# Altium integrated library TI Interface Display.IntLib: 133 symbols (part 13 of 16)
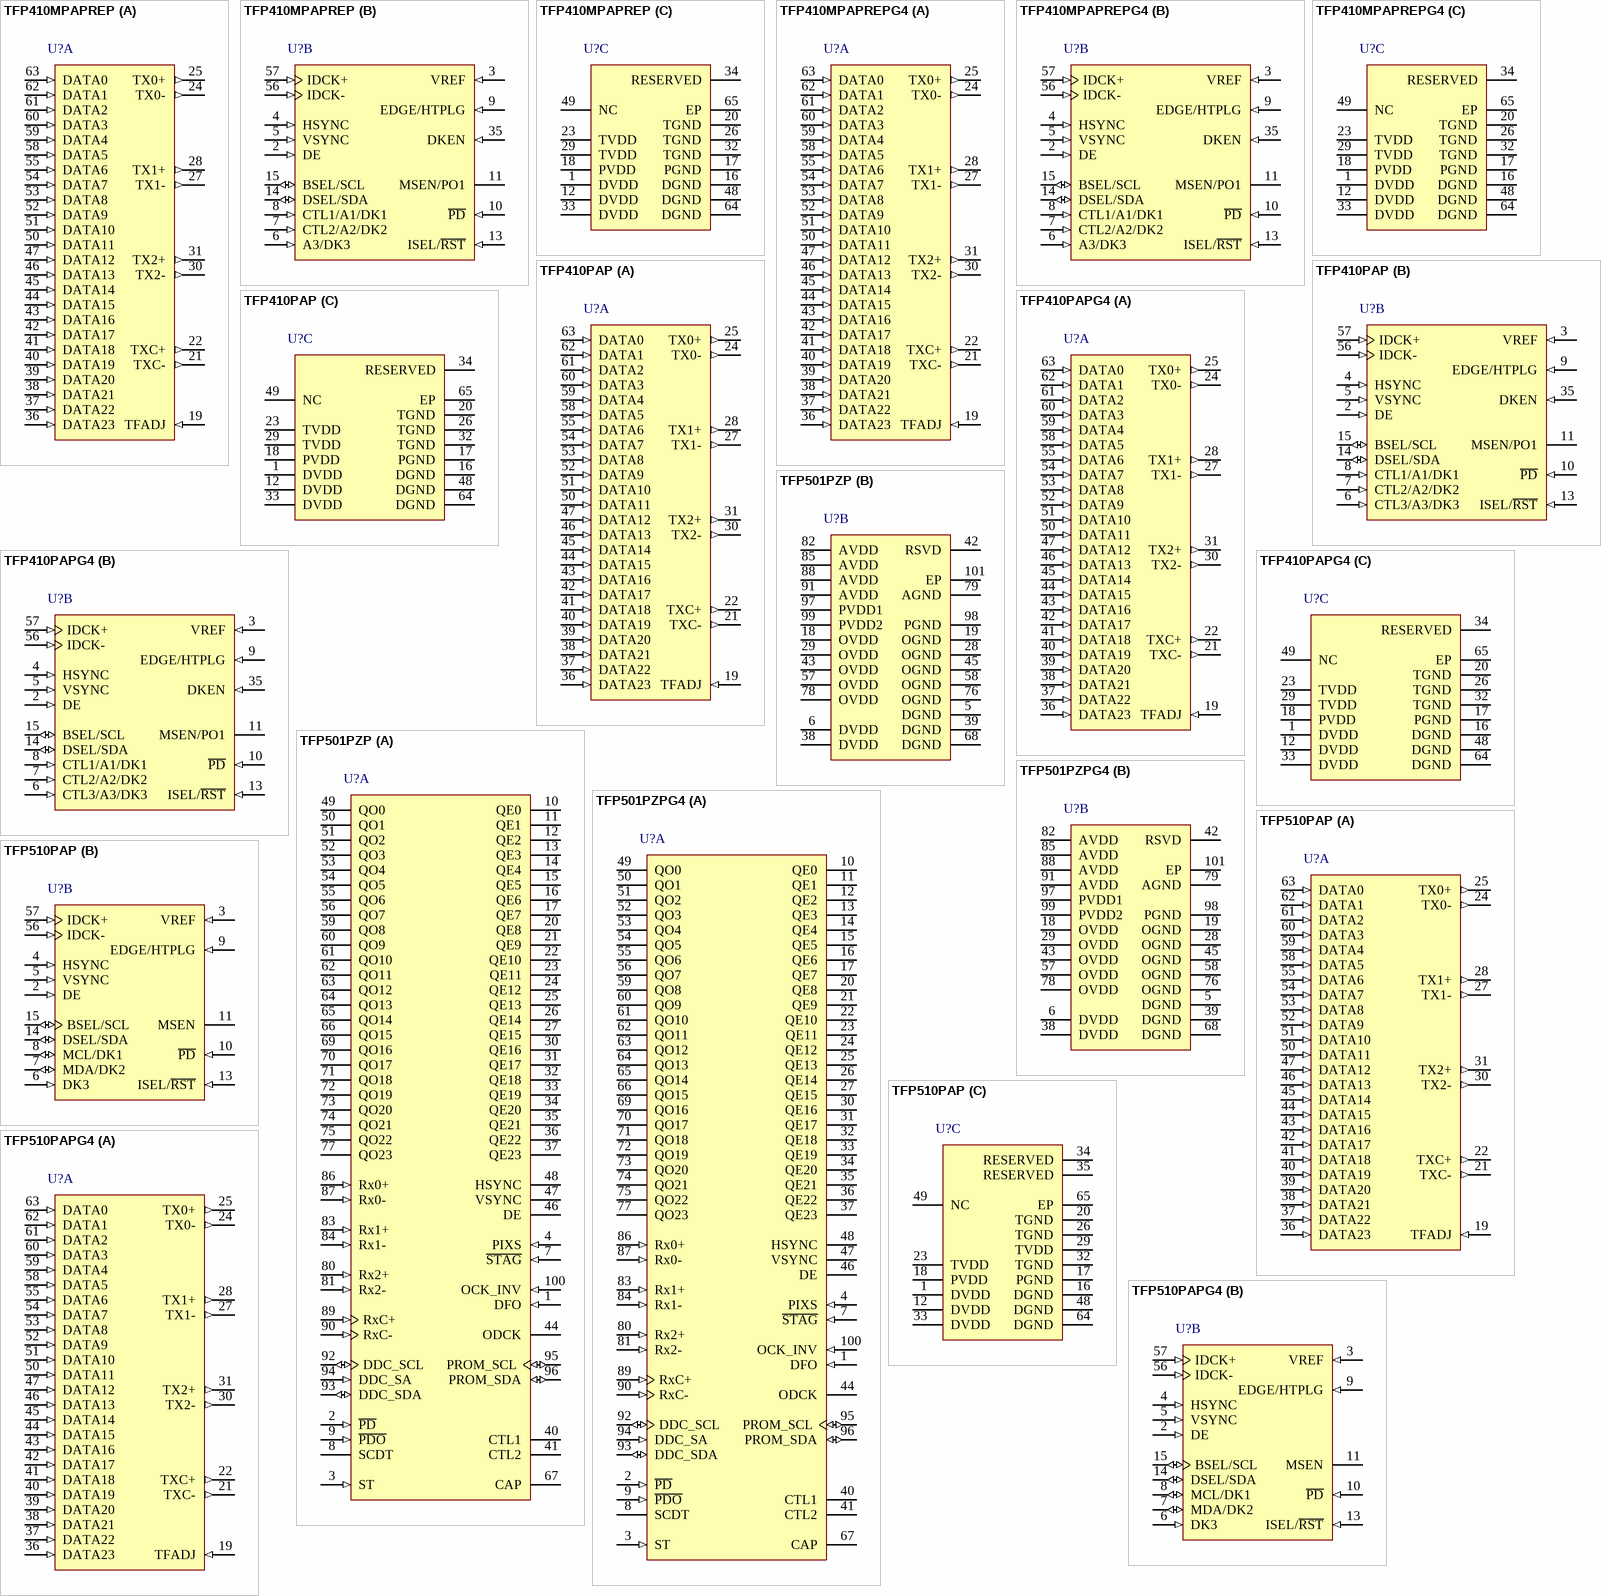
[diagram p26: symbols TFP410MPAPREP to TFP510PAPG4]

## TFP501PZPG4
designator U?
PanelBus HDCP Digital Receiver with 3 Data Channels, 3.3 V, 0 to +70 degC, 100-pin HTQFP (PZP), Green (RoHS & no Sb/Br); Manufacturer: Texas Instruments; PartNumber: TFP501PZPG4; Number of Parallel Outputs: 48; PLL Frequency(MHz): 25 to 165; Rating: Catalog; Receiver: TRUE; Serial Data Receiver Channels: 3; SubFamily: PanelBus (DVI); Supply Voltage(s)(V): 3.3; DatasheetVersion: SLDS127C; PackageVersion: revC, Sep-2011; PackageReference: PZP100-4700X4700TP; PackageDescription: 100-Pin Plastic Quad Flat Pack PowerPAD; Eco-Plan: Green (RoHS & no Sb/Br); Mounting Technology: Surface Mount; Code_JEDEC: MS-026; ComponentLink1Description: Datasheet; ComponentLink1URL: http://www.ti.com/general/docs/lit/getliterature.tsp?genericPartNumber=TFP501&fileType=pdf; ComponentLink2Description: URL Link1; ComponentLink2URL: SamplesURL:http://www.ti.com/product/tfp501#samples
footprint PZP100-4700X4700TP_N (Thin QFP, 100-Leads, Body 14x14mm, Pitch 0.5mm, Thermal Pad 5.2x5.2mm, IPC Medium Density)
footprint PZP100-4700X4700TP_L (Thin QFP, 100-Leads, Body 14x14mm, Pitch 0.5mm, Thermal Pad 5.2x5.2mm, IPC High Density)
footprint PZP100-4700X4700TP_M (Thin QFP, 100-Leads, Body 14x14mm, Pitch 0.5mm, Thermal Pad 5.2x5.2mm, IPC Low Density)
part A pins: 1 DFO (in) "Output clock data format - Controls the output clock (ODCK) format for either TFT or DSTN panel support. For TFT support ODCK clock runs continuously. For DSTN support ODCK only clocks when DE is high; otherwise, ODCK is  (See Datasheet)", 2 ~{PD} (in) "Power down - An active low signal that controls the TFP501 power-down state. During power down all output buffers are switched to a high-impedance state and brought low through a weak pulldown. All analog circuits are (See Datasheet)", 3 ST (in) "Output drive strength select - Selects output drive strength for high or low current drive. (See dc specifications for IOH and IOL vs ST state).High : High drive strength Low : Low drive strength", 4 PIXS (in) "Pixel select - Selects between one or two pixel per clock output modes. During 2-pixel/clock mode, both even pixels,QE[23:0], and odd pixels, QO[23:0], are output in tandem on a given clock cycle. During 1 pixel/clock, even (See Datasheet)", 7 ~{STAG} (in) "Staggered pixel select - An active low signal used in the 2-pixel/clock pixel mode (PIXS = high). Time staggers the even and odd pixel outputs to reduce ground bounce. Normal operation outputs the odd and even pixels  (See Datasheet)", 8 SCDT (hiz) "Sync detect - Output to signal when the link is active or inactive. The link is considered to be active when DE is actively switching. The TFP501 monitors the state DE to determine link activity. SCDT can be tied externally (See Datasheet)", 9 ~{PDO} (in) "Output drive power down - An active low signal that controls the power-down state of the output drivers. During output drive power down, the output drivers (except SCDT and CTL1) are driven to a high-impedance state. A weak (See Datasheet)", 10 QE0 (hiz) "Even blue pixel output - Output for even and odd green pixels when in 1-pixel/clock mode. Output for even only blue pixel when in 2-pixel/clock mode. Output data is synchronized to the output data clock, ODCK. LSB: QE0/pin (See Datasheet)", 11 QE1 (hiz) "Even blue pixel output - Output for even and odd green pixels when in 1-pixel/clock mode. Output for even only blue pixel when in 2-pixel/clock mode. Output data is synchronized to the output data clock, ODCK. LSB: QE0/pin (See Datasheet)", 12 QE2 (hiz) "Even blue pixel output - Output for even and odd green pixels when in 1-pixel/clock mode. Output for even only blue pixel when in 2-pixel/clock mode. Output data is synchronized to the output data clock, ODCK. LSB: QE0/pin (See Datasheet)", 13 QE3 (hiz) "Even blue pixel output - Output for even and odd green pixels when in 1-pixel/clock mode. Output for even only blue pixel when in 2-pixel/clock mode. Output data is synchronized to the output data clock, ODCK. LSB: QE0/pin (See Datasheet)", 14 QE4 (hiz) "Even blue pixel output - Output for even and odd green pixels when in 1-pixel/clock mode. Output for even only blue pixel when in 2-pixel/clock mode. Output data is synchronized to the output data clock, ODCK. LSB: QE0/pin (See Datasheet)", 15 QE5 (hiz) "Even blue pixel output - Output for even and odd green pixels when in 1-pixel/clock mode. Output for even only blue pixel when in 2-pixel/clock mode. Output data is synchronized to the output data clock, ODCK. LSB: QE0/pin (See Datasheet)", 16 QE6 (hiz) "Even blue pixel output - Output for even and odd green pixels when in 1-pixel/clock mode. Output for even only blue pixel when in 2-pixel/clock mode. Output data is synchronized to the output data clock, ODCK. LSB: QE0/pin (See Datasheet)", 17 QE7 (hiz) "Even blue pixel output - Output for even and odd green pixels when in 1-pixel/clock mode. Output for even only blue pixel when in 2-pixel/clock mode. Output data is synchronized to the output data clock, ODCK. LSB: QE0/pin (See Datasheet)", 20 QE8 (hiz) "Even green pixel output", 21 QE9 (hiz) "Even green pixel output", 22 QE10 (hiz) "Even green pixel output", 23 QE11 (hiz) "Even green pixel output", 24 QE12 (hiz) "Even green pixel output", 25 QE13 (hiz) "Even green pixel output", 26 QE14 (hiz) "Even green pixel output", 27 QE15 (hiz) "Even green pixel output", 30 QE16 (hiz) "Even red pixel output - Output for even and odd red pixels when in 1-pixel/clock mode. Output for even only red pixel when in 2-pixel/clock mode. Output data is synchronized to the output data clock, ODCK.LSB: QE16/pin 30 (See Datasheet)", 31 QE17 (hiz) "Even red pixel output - Output for even and odd red pixels when in 1-pixel/clock mode. Output for even only red pixel when in 2-pixel/clock mode. Output data is synchronized to the output data clock, ODCK.LSB: QE16/pin 30 (See Datasheet)", 32 QE18 (hiz) "Even red pixel output - Output for even and odd red pixels when in 1-pixel/clock mode. Output for even only red pixel when in 2-pixel/clock mode. Output data is synchronized to the output data clock, ODCK.LSB: QE16/pin 30 (See Datasheet)", 33 QE19 (hiz) "Even red pixel output - Output for even and odd red pixels when in 1-pixel/clock mode. Output for even only red pixel when in 2-pixel/clock mode. Output data is synchronized to the output data clock, ODCK.LSB: QE16/pin 30 (See Datasheet)", 34 QE20 (hiz) "Even red pixel output - Output for even and odd red pixels when in 1-pixel/clock mode. Output for even only red pixel when in 2-pixel/clock mode. Output data is synchronized to the output data clock, ODCK.LSB: QE16/pin 30 (See Datasheet)", 35 QE21 (hiz) "Even red pixel output - Output for even and odd red pixels when in 1-pixel/clock mode. Output for even only red pixel when in 2-pixel/clock mode. Output data is synchronized to the output data clock, ODCK.LSB: QE16/pin 30 (See Datasheet)", 36 QE22 (hiz) "Even red pixel output - Output for even and odd red pixels when in 1-pixel/clock mode. Output for even only red pixel when in 2-pixel/clock mode. Output data is synchronized to the output data clock, ODCK.LSB: QE16/pin 30 (See Datasheet)", 37 QE23 (hiz) "Even red pixel output - Output for even and odd red pixels when in 1-pixel/clock mode. Output for even only red pixel when in 2-pixel/clock mode. Output data is synchronized to the output data clock, ODCK.LSB: QE16/pin 30 (See Datasheet)", 40 CTL1 (hiz) "General-purpose control signals - Used for user defined control. In normal mode CTL1 is not powered down via P\D\O\.", 41 CTL2 (hiz) "General-purpose control signals - Used for user defined control. In normal mode CTL1 is not powered down via P\D\O\.", 44 ODCK (hiz) "Output data clock - Pixel clock. All pixel outputs QE[23:0] and QO[23:0] (if in 2-pixel/clock mode) along with DE,HSYNC, VSYNC and CTL[2:1] are synchronized to this clock.", 46 DE (hiz) "Output data enable - Used to indicate time of active video display versus nonactive display or blanking interval.During blanking, only HSYNC, VSYNC, and CTL1-2 are transmitted. During times of active display, or nonblanking, (See Datasheet)", 47 VSYNC (hiz) "Vertical sync output", 48 HSYNC (hiz) "Horizontal sync output", 49 QO0 (hiz) "Odd blue pixel output - Output for odd only blue pixel when in 2-pixel/clock mode. Not used, and held low, when in 1-pixel/clock mode. Output data is synchronized to the output data clock, ODCK. LSB: QO0/pin 49 MSB: QO7/pin (See Datasheet)", 50 QO1 (hiz) "Odd blue pixel output - Output for odd only blue pixel when in 2-pixel/clock mode. Not used, and held low, when in 1-pixel/clock mode. Output data is synchronized to the output data clock, ODCK. LSB: QO0/pin 49 MSB: QO7/pin (See Datasheet)", 51 QO2 (hiz) "Odd blue pixel output - Output for odd only blue pixel when in 2-pixel/clock mode. Not used, and held low, when in 1-pixel/clock mode. Output data is synchronized to the output data clock, ODCK. LSB: QO0/pin 49 MSB: QO7/pin (See Datasheet)", 52 QO3 (hiz) "Odd blue pixel output - Output for odd only blue pixel when in 2-pixel/clock mode. Not used, and held low, when in 1-pixel/clock mode. Output data is synchronized to the output data clock, ODCK. LSB: QO0/pin 49 MSB: QO7/pin (See Datasheet)", 53 QO4 (hiz) "Odd blue pixel output - Output for odd only blue pixel when in 2-pixel/clock mode. Not used, and held low, when in 1-pixel/clock mode. Output data is synchronized to the output data clock, ODCK. LSB: QO0/pin 49 MSB: QO7/pin (See Datasheet)", 54 QO5 (hiz) "Odd blue pixel output - Output for odd only blue pixel when in 2-pixel/clock mode. Not used, and held low, when in 1-pixel/clock mode. Output data is synchronized to the output data clock, ODCK. LSB: QO0/pin 49 MSB: QO7/pin (See Datasheet)", 55 QO6 (hiz) "Odd blue pixel output - Output for odd only blue pixel when in 2-pixel/clock mode. Not used, and held low, when in 1-pixel/clock mode. Output data is synchronized to the output data clock, ODCK. LSB: QO0/pin 49 MSB: QO7/pin (See Datasheet)", 56 QO7 (hiz) "Odd blue pixel output - Output for odd only blue pixel when in 2-pixel/clock mode. Not used, and held low, when in 1-pixel/clock mode. Output data is synchronized to the output data clock, ODCK. LSB: QO0/pin 49 MSB: QO7/pin (See Datasheet)", 59 QO8 (hiz) "Odd green pixel output - Output for odd only green pixel when in 2-pixel/clock mode. Not used, and held low, when in 1-pixel/clock mode. Output data is synchronized to the output data clock, ODCK. LSB: QO8/pin 59 MSB: (See Datasheet)", 60 QO9 (hiz) "Odd green pixel output - Output for odd only green pixel when in 2-pixel/clock mode. Not used, and held low, when in 1-pixel/clock mode. Output data is synchronized to the output data clock, ODCK. LSB: QO8/pin 59 MSB: (See Datasheet)", 61 QO10 (hiz) "Odd green pixel output - Output for odd only green pixel when in 2-pixel/clock mode. Not used, and held low, when in 1-pixel/clock mode. Output data is synchronized to the output data clock, ODCK. LSB: QO8/pin 59 MSB: (See Datasheet)", 62 QO11 (hiz) "Odd green pixel output - Output for odd only green pixel when in 2-pixel/clock mode. Not used, and held low, when in 1-pixel/clock mode. Output data is synchronized to the output data clock, ODCK. LSB: QO8/pin 59 MSB: (See Datasheet)", 63 QO12 (hiz) "Odd green pixel output - Output for odd only green pixel when in 2-pixel/clock mode. Not used, and held low, when in 1-pixel/clock mode. Output data is synchronized to the output data clock, ODCK. LSB: QO8/pin 59 MSB: (See Datasheet)", 64 QO13 (hiz) "Odd green pixel output - Output for odd only green pixel when in 2-pixel/clock mode. Not used, and held low, when in 1-pixel/clock mode. Output data is synchronized to the output data clock, ODCK. LSB: QO8/pin 59 MSB: (See Datasheet)", 65 QO14 (hiz) "Odd green pixel output - Output for odd only green pixel when in 2-pixel/clock mode. Not used, and held low, when in 1-pixel/clock mode. Output data is synchronized to the output data clock, ODCK. LSB: QO8/pin 59 MSB: (See Datasheet)", 66 QO15 (hiz) "Odd green pixel output - Output for odd only green pixel when in 2-pixel/clock mode. Not used, and held low, when in 1-pixel/clock mode. Output data is synchronized to the output data clock, ODCK. LSB: QO8/pin 59 MSB: (See Datasheet)", 67 CAP "Bypass capacito r- 4.7", 69 QO16 (hiz) "Odd red pixel output - Output for odd only red pixel when in 2-pixel/clock mode. Not used, and held low, when in 1-pixel/clock mode. Output data is synchronized to the output data clock, ODCK.LSB: QO16/pin 69 MSB: QO23/pin 77", 70 QO17 (hiz) "Odd red pixel output - Output for odd only red pixel when in 2-pixel/clock mode. Not used, and held low, when in 1-pixel/clock mode. Output data is synchronized to the output data clock, ODCK.LSB: QO16/pin 69 MSB: QO23/pin 77", 71 QO18 (hiz) "Odd red pixel output - Output for odd only red pixel when in 2-pixel/clock mode. Not used, and held low, when in 1-pixel/clock mode. Output data is synchronized to the output data clock, ODCK.LSB: QO16/pin 69 MSB: QO23/pin 77", 72 QO19 (hiz) "Odd red pixel output - Output for odd only red pixel when in 2-pixel/clock mode. Not used, and held low, when in 1-pixel/clock mode. Output data is synchronized to the output data clock, ODCK.LSB: QO16/pin 69 MSB: QO23/pin 77", 73 QO20 (hiz) "Odd red pixel output - Output for odd only red pixel when in 2-pixel/clock mode. Not used, and held low, when in 1-pixel/clock mode. Output data is synchronized to the output data clock, ODCK.LSB: QO16/pin 69 MSB: QO23/pin 77", 74 QO21 (hiz) "Odd red pixel output - Output for odd only red pixel when in 2-pixel/clock mode. Not used, and held low, when in 1-pixel/clock mode. Output data is synchronized to the output data clock, ODCK.LSB: QO16/pin 69 MSB: QO23/pin 77", 75 QO22 (hiz) "Odd red pixel output - Output for odd only red pixel when in 2-pixel/clock mode. Not used, and held low, when in 1-pixel/clock mode. Output data is synchronized to the output data clock, ODCK.LSB: QO16/pin 69 MSB: QO23/pin 77", 77 QO23 (hiz) "Odd red pixel output - Output for odd only red pixel when in 2-pixel/clock mode. Not used, and held low, when in 1-pixel/clock mode. Output data is synchronized to the output data clock, ODCK.LSB: QO16/pin 69 MSB: QO23/pin 77", 80 Rx2+ (in) "Channel-2 positive receiver input - Positive side of channel-2 TMDS low voltage signal differential input pair.Channel-2 receives red pixel data in active display and CTL2 control signals in blanking.", 81 Rx2- (in) "Channel-2 negative receiver input - Negative side of channel-2 TMDS low voltage signal differential input pair.", 83 Rx1+ (in) "Channel-1 positive receiver input - Positive side of channel-1 TMDS low voltage signal differential input pair.Channel-1 receives green pixel data in active display and CTL1 control signals in blanking.", 84 Rx1- (in) "Channel-1 negative receiver input - Negative side of channel-1 TMDS low voltage signal differential input pair.", 86 Rx0+ (in) "Channel-0 positive receiver input - Positive side of channel-0. TMDS low voltage signal differential input pail.Channel-0 receives blue pixel data in active display and HSYNC, VSYNC control signals in blanking.", 87 Rx0- (in) "Channel-0 negative receiver input - Negative side of channel-0. TMDS low voltage signal differential input pair.", 89 RxC+ (in) "Clock positive receiver input - Positive side of reference clock. TMDS low voltage signal differential input pair.", 90 RxC- (in) "Clock negative receiver input - Negative side of reference clock. TMDS low voltage signal differential input pair.", 92 DDC_SCL (io) "Display data channel_serial clock - I2C Clock for the DDC. External pullup resistors = 10 k ohm and 3.3 V tolerant.", 93 DDC_SDA (io) "Display data channel_serial data - I2C Data for the DDC. External pullup resistors = 10 k ohm and 3.3 V tolerant.", 94 DDC_SA (in) "Display data channel_serial address - I2C Slave address bit A0 for display data channel (DDC). Refer to I2C Interface section for more details.", 95 PROM_SCL (io) "EEPROM_serial clock - I2C clock for EEPROM interface data. External pullup resistors = 10 k ohm and 3.3 V tolerant.", 96 PROM_SDA (io) "EEPROM_serial data - I2C data for EEPROM interface data. External pullup resistors = 10 kohm and 3.3 V tolerant.", 100 OCK_INV (in) "ODCK Polarity - Selects ODCK edge on which pixel data (QE[23:0] and QO[23:0]) and control signals (HSYNC,VSYNC, DE, CTL1-2 ) are latched.High : Latches output data on rising ODCK edge Low : Latches output data on falling (See Datasheet)"
part B pins: 5 DGND (power) "Digital ground - Ground reference and current return for digital core", 6 DVDD (power) "Digital VDD - Power supply for digital core. Nominally 3.3 V", 18 OVDD (power) "Output driver VDD - Power supply for output drivers. Nominally 3.3 V", 19 OGND (power) "Output driver ground - Ground reference and current return for digital output drivers", 28 OGND (power) "Output driver ground - Ground reference and current return for digital output drivers", 29 OVDD (power) "Output driver VDD - Power supply for output drivers. Nominally 3.3 V", 38 DVDD (power) "Digital VDD - Power supply for digital core. Nominally 3.3 V", 39 DGND (power) "Digital ground - Ground reference and current return for digital core", 42 RSVD "Reserved - Must be tied high for normal operation.", 43 OVDD (power) "Output driver VDD - Power supply for output drivers. Nominally 3.3 V", 45 OGND (power) "Output driver ground - Ground reference and current return for digital output drivers", 57 OVDD (power) "Output driver VDD - Power supply for output drivers. Nominally 3.3 V", 58 OGND (power) "Output driver ground - Ground reference and current return for digital output drivers", 68 DGND (power) "Digital ground - Ground reference and current return for digital core", 76 OGND (power) "Output driver ground - Ground reference and current return for digital output drivers", 78 OVDD (power) "Output driver VDD - Power supply for output drivers. Nominally 3.3 V", 79 AGND (power) "Analog Ground - Ground reference and current return for analog circuitry.", 82 AVDD (power) "Analog VDD - Power supply for analog circuitry. Nominally 3.3 V", 85 AVDD (power) "Analog VDD - Power supply for analog circuitry. Nominally 3.3 V", 88 AVDD (power) "Analog VDD - Power supply for analog circuitry. Nominally 3.3 V", 91 AVDD (power) "Analog VDD - Power supply for analog circuitry. Nominally 3.3 V", 97 PVDD1 (power) "PLL VDD - Power supply for internal PLL", 98 PGND (power) "PLL ground - Ground reference and current return for internal PLL", 99 PVDD2 (power) "PLL VDD - Power supply for internal PLL", 101 EP (power) "Exposed  Pad"

## TFP510PAP
designator U?
TI PanelBus DVI Transmitter 165 MHz Plus HDCP with 3 Data Channels, 3.3 V, 0 to +70 degC, 64-pin HTQFP (PAP), Green (RoHS & no Sb/Br); Manufacturer: Texas Instruments; PartNumber: TFP510PAP; Number of Parallel Inputs: 24; PLL Frequency(MHz): 25 to 165; Rating: Catalog; Serial Data Transmitter Channels: 3; SubFamily: PanelBus (DVI); Supply Voltage(s)(V): 3.3; Transmitter: TRUE; DatasheetVersion: SLDS146C; PackageVersion: revC, Aug-2003; PackageReference: PAP64-4650X4650TP; PackageDescription: 64-Pin Plastic Quad Flat Pack, 10 x 10 mm Body, 0.5 mm Pitch, Exposed Pad; Eco-Plan: Green (RoHS & no Sb/Br); Mounting Technology: Surface Mount; Code_JEDEC: MS-026; ComponentLink1Description: Datasheet; ComponentLink1URL: http://www.ti.com/general/docs/lit/getliterature.tsp?genericPartNumber=TFP510&fileType=pdf; ComponentLink2Description: URL Link1; ComponentLink2URL: SamplesURL:http://www.ti.com/product/tfp510#samples
footprint PAP64-4650X4650TP_N (Thin QFP, 64-Leads, Body 10x10mm, Pitch 0.5mm, Thermal Pad 5x5mm, IPC Medium Density)
footprint PAP64-4650X4650TP_L (Thin QFP, 64-Leads, Body 10x10mm, Pitch 0.5mm, Thermal Pad 5x5mm, IPC High Density)
footprint PAP64-4650X4650TP_M (Thin QFP, 64-Leads, Body 10x10mm, Pitch 0.5mm, Thermal Pad 5x5mm, IPC Low Density)
part A pins: 19 TFADJ (in) "Full-scale adjust. This pin controls the amplitude of the DVI output voltage swing, determined by the value of the pullup resistor RTFADJ connected to TVDD.", 21 TXC- (out) "DVI differential output clock.", 22 TXC+ (out) "DVI differential output clock.", 24 TX0- (out) "Channel-0 DVI differential output pair. TX0+/- transmits the 8-bit blue pixel data during active video and HSYNC and VSYNC during the blanking interval.", 25 TX0+ (out) "Channel-0 DVI differential output pair. TX0+/- transmits the 8-bit blue pixel data during active video and HSYNC and VSYNC during the blanking interval.", 27 TX1- (out) "Channel-1 DVI differential output pair. TX1+/- transmits the 8-bit green pixel data during active video and CTL[1] during the blanking interval.", 28 TX1+ (out) "Channel-1 DVI differential output pair. TX1+/- transmits the 8-bit green pixel data during active video and CTL[1] during the blanking interval.", 30 TX2- (out) "Channel-2 DVI differential output pair. TX2+/- transmits the 8-bit red pixel data during active video and CTL[3:2] during the blanking interval.", 31 TX2+ (out) "Channel-2 DVI differential output pair. TX2+/- transmits the 8-bit red pixel data during active video and CTL[3:2] during the blanking interval.", 36 DATA23 (in) "The upper 12 bits of the 24-bit pixel bus. In 24-bit, single-edge input mode (BSEL = high), this bus inputs the top half of the 24-bit pixel bus. In 12-bit, dual-edge input mode (BSEL = low), these bits are not used to input (See Datasheet)", 37 DATA22 (in) "The upper 12 bits of the 24-bit pixel bus. In 24-bit, single-edge input mode (BSEL = high), this bus inputs the top half of the 24-bit pixel bus. In 12-bit, dual-edge input mode (BSEL = low), these bits are not used to input (See Datasheet)", 38 DATA21 (in) "The upper 12 bits of the 24-bit pixel bus. In 24-bit, single-edge input mode (BSEL = high), this bus inputs the top half of the 24-bit pixel bus. In 12-bit, dual-edge input mode (BSEL = low), these bits are not used to input (See Datasheet)", 39 DATA20 (in) "The upper 12 bits of the 24-bit pixel bus. In 24-bit, single-edge input mode (BSEL = high), this bus inputs the top half of the 24-bit pixel bus. In 12-bit, dual-edge input mode (BSEL = low), these bits are not used to input (See Datasheet)", 40 DATA19 (in) "The upper 12 bits of the 24-bit pixel bus. In 24-bit, single-edge input mode (BSEL = high), this bus inputs the top half of the 24-bit pixel bus. In 12-bit, dual-edge input mode (BSEL = low), these bits are not used to input (See Datasheet)", 41 DATA18 (in) "The upper 12 bits of the 24-bit pixel bus. In 24-bit, single-edge input mode (BSEL = high), this bus inputs the top half of the 24-bit pixel bus. In 12-bit, dual-edge input mode (BSEL = low), these bits are not used to input (See Datasheet)", 42 DATA17 (in) "The upper 12 bits of the 24-bit pixel bus. In 24-bit, single-edge input mode (BSEL = high), this bus inputs the top half of the 24-bit pixel bus. In 12-bit, dual-edge input mode (BSEL = low), these bits are not used to input (See Datasheet)", 43 DATA16 (in) "The upper 12 bits of the 24-bit pixel bus. In 24-bit, single-edge input mode (BSEL = high), this bus inputs the top half of the 24-bit pixel bus. In 12-bit, dual-edge input mode (BSEL = low), these bits are not used to input (See Datasheet)", 44 DATA15 (in) "The upper 12 bits of the 24-bit pixel bus. In 24-bit, single-edge input mode (BSEL = high), this bus inputs the top half of the 24-bit pixel bus. In 12-bit, dual-edge input mode (BSEL = low), these bits are not used to input (See Datasheet)", 45 DATA14 (in) "The upper 12 bits of the 24-bit pixel bus. In 24-bit, single-edge input mode (BSEL = high), this bus inputs the top half of the 24-bit pixel bus. In 12-bit, dual-edge input mode (BSEL = low), these bits are not used to input (See Datasheet)", 46 DATA13 (in) "The upper 12 bits of the 24-bit pixel bus. In 24-bit, single-edge input mode (BSEL = high), this bus inputs the top half of the 24-bit pixel bus. In 12-bit, dual-edge input mode (BSEL = low), these bits are not used to input (See Datasheet)", 47 DATA12 (in) "The upper 12 bits of the 24-bit pixel bus. In 24-bit, single-edge input mode (BSEL = high), this bus inputs the top half of the 24-bit pixel bus. In 12-bit, dual-edge input mode (BSEL = low), these bits are not used to input (See Datasheet)", 50 DATA11 (in) "The lower 12 bits of the 24-bit pixel bus/12-bit pixel bus input. In 24-bit, single-edge input mode (BSEL = high), this bus inputs the bottom half of the 24-bit pixel bus. In 12-bit, dual-edge input mode (BSEL = low), this (See Datasheet)", 51 DATA10 (in) "The lower 12 bits of the 24-bit pixel bus/12-bit pixel bus input. In 24-bit, single-edge input mode (BSEL = high), this bus inputs the bottom half of the 24-bit pixel bus. In 12-bit, dual-edge input mode (BSEL = low), this (See Datasheet)", 52 DATA9 (in) "The lower 12 bits of the 24-bit pixel bus/12-bit pixel bus input. In 24-bit, single-edge input mode (BSEL = high), this bus inputs the bottom half of the 24-bit pixel bus. In 12-bit, dual-edge input mode (BSEL = low), this (See Datasheet)", 53 DATA8 (in) "The lower 12 bits of the 24-bit pixel bus/12-bit pixel bus input. In 24-bit, single-edge input mode (BSEL = high), this bus inputs the bottom half of the 24-bit pixel bus. In 12-bit, dual-edge input mode (BSEL = low), this (See Datasheet)", 54 DATA7 (in) "The lower 12 bits of the 24-bit pixel bus/12-bit pixel bus input. In 24-bit, single-edge input mode (BSEL = high), this bus inputs the bottom half of the 24-bit pixel bus. In 12-bit, dual-edge input mode (BSEL = low), this (See Datasheet)", 55 DATA6 (in) "The lower 12 bits of the 24-bit pixel bus/12-bit pixel bus input. In 24-bit, single-edge input mode (BSEL = high), this bus inputs the bottom half of the 24-bit pixel bus. In 12-bit, dual-edge input mode (BSEL = low), this (See Datasheet)", 58 DATA5 (in) "The lower 12 bits of the 24-bit pixel bus/12-bit pixel bus input. In 24-bit, single-edge input mode (BSEL = high), this bus inputs the bottom half of the 24-bit pixel bus. In 12-bit, dual-edge input mode (BSEL = low), this (See Datasheet)", 59 DATA4 (in) "The lower 12 bits of the 24-bit pixel bus/12-bit pixel bus input. In 24-bit, single-edge input mode (BSEL = high), this bus inputs the bottom half of the 24-bit pixel bus. In 12-bit, dual-edge input mode (BSEL = low), this (See Datasheet)", 60 DATA3 (in) "The lower 12 bits of the 24-bit pixel bus/12-bit pixel bus input. In 24-bit, single-edge input mode (BSEL = high), this bus inputs the bottom half of the 24-bit pixel bus. In 12-bit, dual-edge input mode (BSEL = low), this (See Datasheet)", 61 DATA2 (in) "The lower 12 bits of the 24-bit pixel bus/12-bit pixel bus input. In 24-bit, single-edge input mode (BSEL = high), this bus inputs the bottom half of the 24-bit pixel bus. In 12-bit, dual-edge input mode (BSEL = low), this (See Datasheet)", 62 DATA1 (in) "The lower 12 bits of the 24-bit pixel bus/12-bit pixel bus input. In 24-bit, single-edge input mode (BSEL = high), this bus inputs the bottom half of the 24-bit pixel bus. In 12-bit, dual-edge input mode (BSEL = low), this (See Datasheet)", 63 DATA0 (in) "The lower 12 bits of the 24-bit pixel bus/12-bit pixel bus input. In 24-bit, single-edge input mode (BSEL = high), this bus inputs the bottom half of the 24-bit pixel bus. In 12-bit, dual-edge input mode (BSEL = low), this (See Datasheet)"
part B pins: 2 DE (in) "Data enable. As defined in the DVI 1.0 specification, the DE signal allows the transmitter to encode pixel data or control data on any given input clock cycle. During active video (DE = high), the transmitter encodes pixel (See Datasheet)", 3 VREF (in) "Input reference voltage. Selects the swing range of the digital data inputs (DATA[23:0], DE, HSYNC, VSYNC, and IDCK+/-). For high-swing 3.3-V input signal levels, VREF should be tied to VDD. For low-swing input signal (See Datasheet)", 4 HSYNC (in) "Horizontal sync input.", 5 VSYNC (in) "Vertical sync input.", 6 DK3 (in) "The operation of these three multifunction inputs depends on the setting of the ISEL (pin 13) input. All three inputs support 3.3-V CMOS signal levels and contain weak pulldown resistors so that if left unconnected they (See Datasheet)", 7 MDA/DK2 (io) "The operation of these three multifunction inputs depends on the setting of the ISEL (pin 13) input. All three inputs support 3.3-V CMOS signal levels and contain weak pulldown resistors so that if left unconnected they (See Datasheet)", 8 MCL/DK1 (io) "The operation of these three multifunction inputs depends on the setting of the ISEL (pin 13) input. All three inputs support 3.3-V CMOS signal levels and contain weak pulldown resistors so that if left unconnected they (See Datasheet)", 9 EDGE/HTPLG (in) "Edge select/hot plug input. The operation of this pin depends on whether the I2C interface is enabled or disabled. This input is 3.3-V tolerant only. When I2C is disabled (ISEL = low), a high level selects the primary latch (See Datasheet)", 10 ~{PD} (in) "Power down (active low). In the power-down state only the digital I/O buffers and I2C interface remain active. When I2C is disabled (ISEL = low), a high level selects the normal operating mode. A low level selects the (See Datasheet)", 11 MSEN (oc) "Monitor sense/programmable output 1. The operation of this pin depends on whether the I2C interface is enabled or disabled. This pin has an open-drain output and is only 3.3-V tolerant. An external 5-k ohm pullup resistor (See Datasheet)", 13 ISEL/~{RST} (in) "I2C interface select / I2C RESET (active low, asynchronous). If ISEL is high, then the I2C interface is active. Default values for the I2C registers can be found in the I2C register descriptions section. If ISEL is low, then (See Datasheet)", 14 DSEL/SDA (io) "DSEL/I2C data. The operation of this pin depends on whether the I2C interface is enabled or disabled. This pin is only 3.3-V tolerant. When I2C is disabled (ISEL = low), this pin is used with BSEL and VREF to select the (See Datasheet)", 15 BSEL/SCL (io) "Input bus select / I2C clock input. The operation of this pin depends on whether the I2C interface is enabled or disabled. This pin is only 3.3-V tolerant. When I2C is disabled (ISEL = low), a high level selects 24-bit (See Datasheet)", 56 IDCK- (in) "Differential clock input. The TFP510 supports both single-ended and fully differential clock input modes. In the single-ended clock input mode, the IDCK+ input (pin 57) should be connected to the single-ended clock source (See Datasheet)", 57 IDCK+ (in) "Differential clock input. The TFP510 supports both single-ended and fully differential clock input modes. In the single-ended clock input mode, the IDCK+ input (pin 57) should be connected to the single-ended clock source (See Datasheet)"
part C pins: 1 DVDD (power) "Digital power supply. Must be set to 3.3 V nominal.", 12 DVDD (power) "Digital power supply. Must be set to 3.3 V nominal.", 16 DGND (power) "Digital ground.", 17 PGND (power) "PLL ground.", 18 PVDD (power) "PLL power supply. Must be set to 3.3 V nominal.", 20 TGND (power) "Transmitter differential output driver ground.", 23 TVDD (power) "Transmitter differential output driver power supply. Must be set to 3.3 V nominal.", 26 TGND (power) "Transmitter differential output driver ground.", 29 TVDD (power) "Transmitter differential output driver power supply. Must be set to 3.3 V nominal.", 32 TGND (power) "Transmitter differential output driver ground.", 33 DVDD (power) "Digital power supply. Must be set to 3.3 V nominal.", 34 RESERVED "These pins are reserved and must be tied to GND for normal operation.", 35 RESERVED "These pins are reserved and must be tied to GND for normal operation.", 48 DGND (power) "Digital ground.", 49 NC "No connection required. If connected, tie high.", 64 DGND (power) "Digital ground.", 65 EP "Exposed Pad."

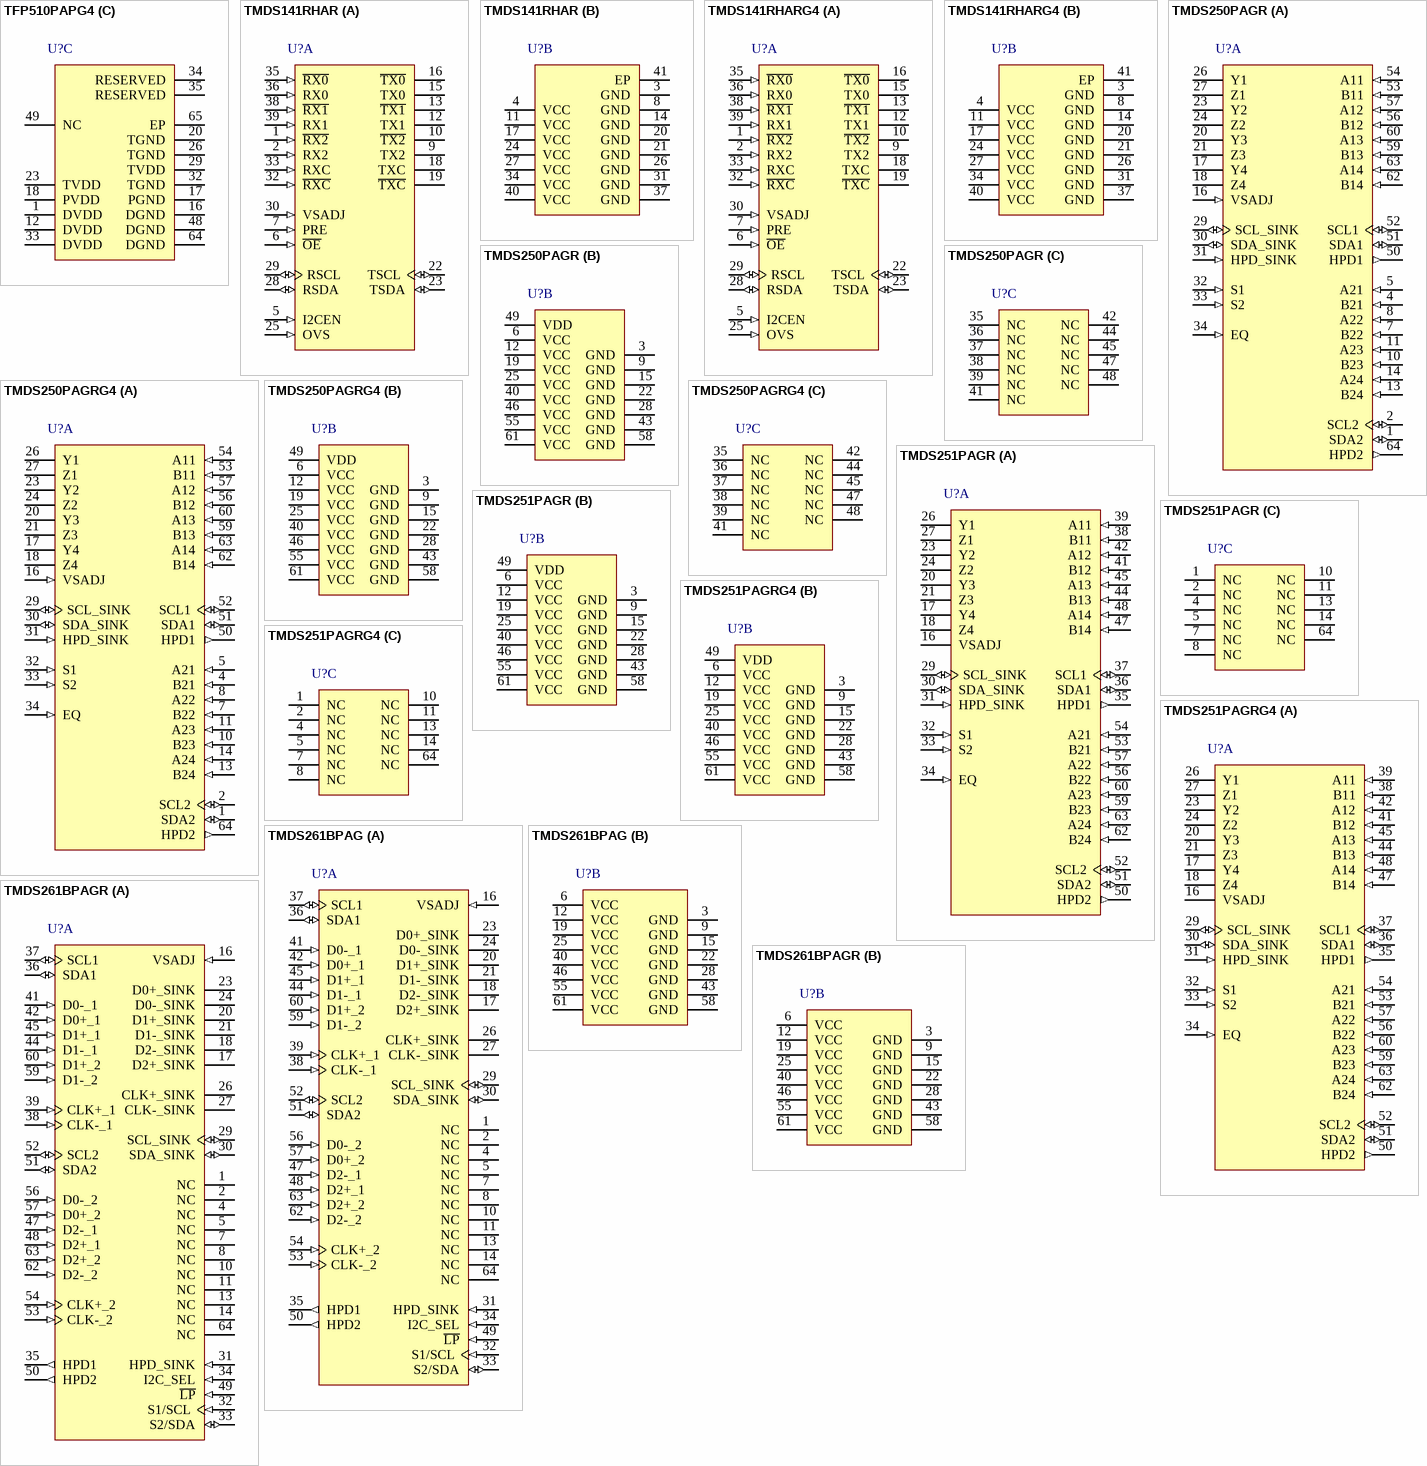
[diagram p11: symbols TFP510PAPG4 to TMDS261BPAGR]

## TFP510PAPG4
designator U?
TI PanelBus DVI Transmitter 165 MHz Plus HDCP with 3 Data Channels, 3.3 V, 0 to +70 degC, 64-pin HTQFP (PAP), Green (RoHS & no Sb/Br); Manufacturer: Texas Instruments; PartNumber: TFP510PAPG4; Number of Parallel Inputs: 24; PLL Frequency(MHz): 25 to 165; Rating: Catalog; Serial Data Transmitter Channels: 3; SubFamily: PanelBus (DVI); Supply Voltage(s)(V): 3.3; Transmitter: TRUE; DatasheetVersion: SLDS146C; PackageVersion: revC, Aug-2003; PackageReference: PAP64-4650X4650TP; PackageDescription: 64-Pin Plastic Quad Flat Pack, 10 x 10 mm Body, 0.5 mm Pitch, Exposed Pad; Eco-Plan: Green (RoHS & no Sb/Br); Mounting Technology: Surface Mount; Code_JEDEC: MS-026; ComponentLink1Description: Datasheet; ComponentLink1URL: http://www.ti.com/general/docs/lit/getliterature.tsp?genericPartNumber=TFP510&fileType=pdf; ComponentLink2Description: URL Link1; ComponentLink2URL: SamplesURL:http://www.ti.com/product/tfp510#samples
footprint PAP64-4650X4650TP_N (Thin QFP, 64-Leads, Body 10x10mm, Pitch 0.5mm, Thermal Pad 5x5mm, IPC Medium Density)
footprint PAP64-4650X4650TP_L (Thin QFP, 64-Leads, Body 10x10mm, Pitch 0.5mm, Thermal Pad 5x5mm, IPC High Density)
footprint PAP64-4650X4650TP_M (Thin QFP, 64-Leads, Body 10x10mm, Pitch 0.5mm, Thermal Pad 5x5mm, IPC Low Density)
part A pins: 19 TFADJ (in) "Full-scale adjust. This pin controls the amplitude of the DVI output voltage swing, determined by the value of the pullup resistor RTFADJ connected to TVDD.", 21 TXC- (out) "DVI differential output clock.", 22 TXC+ (out) "DVI differential output clock.", 24 TX0- (out) "Channel-0 DVI differential output pair. TX0+/- transmits the 8-bit blue pixel data during active video and HSYNC and VSYNC during the blanking interval.", 25 TX0+ (out) "Channel-0 DVI differential output pair. TX0+/- transmits the 8-bit blue pixel data during active video and HSYNC and VSYNC during the blanking interval.", 27 TX1- (out) "Channel-1 DVI differential output pair. TX1+/- transmits the 8-bit green pixel data during active video and CTL[1] during the blanking interval.", 28 TX1+ (out) "Channel-1 DVI differential output pair. TX1+/- transmits the 8-bit green pixel data during active video and CTL[1] during the blanking interval.", 30 TX2- (out) "Channel-2 DVI differential output pair. TX2+/- transmits the 8-bit red pixel data during active video and CTL[3:2] during the blanking interval.", 31 TX2+ (out) "Channel-2 DVI differential output pair. TX2+/- transmits the 8-bit red pixel data during active video and CTL[3:2] during the blanking interval.", 36 DATA23 (in) "The upper 12 bits of the 24-bit pixel bus. In 24-bit, single-edge input mode (BSEL = high), this bus inputs the top half of the 24-bit pixel bus. In 12-bit, dual-edge input mode (BSEL = low), these bits are not used to input (See Datasheet)", 37 DATA22 (in) "The upper 12 bits of the 24-bit pixel bus. In 24-bit, single-edge input mode (BSEL = high), this bus inputs the top half of the 24-bit pixel bus. In 12-bit, dual-edge input mode (BSEL = low), these bits are not used to input (See Datasheet)", 38 DATA21 (in) "The upper 12 bits of the 24-bit pixel bus. In 24-bit, single-edge input mode (BSEL = high), this bus inputs the top half of the 24-bit pixel bus. In 12-bit, dual-edge input mode (BSEL = low), these bits are not used to input (See Datasheet)", 39 DATA20 (in) "The upper 12 bits of the 24-bit pixel bus. In 24-bit, single-edge input mode (BSEL = high), this bus inputs the top half of the 24-bit pixel bus. In 12-bit, dual-edge input mode (BSEL = low), these bits are not used to input (See Datasheet)", 40 DATA19 (in) "The upper 12 bits of the 24-bit pixel bus. In 24-bit, single-edge input mode (BSEL = high), this bus inputs the top half of the 24-bit pixel bus. In 12-bit, dual-edge input mode (BSEL = low), these bits are not used to input (See Datasheet)", 41 DATA18 (in) "The upper 12 bits of the 24-bit pixel bus. In 24-bit, single-edge input mode (BSEL = high), this bus inputs the top half of the 24-bit pixel bus. In 12-bit, dual-edge input mode (BSEL = low), these bits are not used to input (See Datasheet)", 42 DATA17 (in) "The upper 12 bits of the 24-bit pixel bus. In 24-bit, single-edge input mode (BSEL = high), this bus inputs the top half of the 24-bit pixel bus. In 12-bit, dual-edge input mode (BSEL = low), these bits are not used to input (See Datasheet)", 43 DATA16 (in) "The upper 12 bits of the 24-bit pixel bus. In 24-bit, single-edge input mode (BSEL = high), this bus inputs the top half of the 24-bit pixel bus. In 12-bit, dual-edge input mode (BSEL = low), these bits are not used to input (See Datasheet)", 44 DATA15 (in) "The upper 12 bits of the 24-bit pixel bus. In 24-bit, single-edge input mode (BSEL = high), this bus inputs the top half of the 24-bit pixel bus. In 12-bit, dual-edge input mode (BSEL = low), these bits are not used to input (See Datasheet)", 45 DATA14 (in) "The upper 12 bits of the 24-bit pixel bus. In 24-bit, single-edge input mode (BSEL = high), this bus inputs the top half of the 24-bit pixel bus. In 12-bit, dual-edge input mode (BSEL = low), these bits are not used to input (See Datasheet)", 46 DATA13 (in) "The upper 12 bits of the 24-bit pixel bus. In 24-bit, single-edge input mode (BSEL = high), this bus inputs the top half of the 24-bit pixel bus. In 12-bit, dual-edge input mode (BSEL = low), these bits are not used to input (See Datasheet)", 47 DATA12 (in) "The upper 12 bits of the 24-bit pixel bus. In 24-bit, single-edge input mode (BSEL = high), this bus inputs the top half of the 24-bit pixel bus. In 12-bit, dual-edge input mode (BSEL = low), these bits are not used to input (See Datasheet)", 50 DATA11 (in) "The lower 12 bits of the 24-bit pixel bus/12-bit pixel bus input. In 24-bit, single-edge input mode (BSEL = high), this bus inputs the bottom half of the 24-bit pixel bus. In 12-bit, dual-edge input mode (BSEL = low), this (See Datasheet)", 51 DATA10 (in) "The lower 12 bits of the 24-bit pixel bus/12-bit pixel bus input. In 24-bit, single-edge input mode (BSEL = high), this bus inputs the bottom half of the 24-bit pixel bus. In 12-bit, dual-edge input mode (BSEL = low), this (See Datasheet)", 52 DATA9 (in) "The lower 12 bits of the 24-bit pixel bus/12-bit pixel bus input. In 24-bit, single-edge input mode (BSEL = high), this bus inputs the bottom half of the 24-bit pixel bus. In 12-bit, dual-edge input mode (BSEL = low), this (See Datasheet)", 53 DATA8 (in) "The lower 12 bits of the 24-bit pixel bus/12-bit pixel bus input. In 24-bit, single-edge input mode (BSEL = high), this bus inputs the bottom half of the 24-bit pixel bus. In 12-bit, dual-edge input mode (BSEL = low), this (See Datasheet)", 54 DATA7 (in) "The lower 12 bits of the 24-bit pixel bus/12-bit pixel bus input. In 24-bit, single-edge input mode (BSEL = high), this bus inputs the bottom half of the 24-bit pixel bus. In 12-bit, dual-edge input mode (BSEL = low), this (See Datasheet)", 55 DATA6 (in) "The lower 12 bits of the 24-bit pixel bus/12-bit pixel bus input. In 24-bit, single-edge input mode (BSEL = high), this bus inputs the bottom half of the 24-bit pixel bus. In 12-bit, dual-edge input mode (BSEL = low), this (See Datasheet)", 58 DATA5 (in) "The lower 12 bits of the 24-bit pixel bus/12-bit pixel bus input. In 24-bit, single-edge input mode (BSEL = high), this bus inputs the bottom half of the 24-bit pixel bus. In 12-bit, dual-edge input mode (BSEL = low), this (See Datasheet)", 59 DATA4 (in) "The lower 12 bits of the 24-bit pixel bus/12-bit pixel bus input. In 24-bit, single-edge input mode (BSEL = high), this bus inputs the bottom half of the 24-bit pixel bus. In 12-bit, dual-edge input mode (BSEL = low), this (See Datasheet)", 60 DATA3 (in) "The lower 12 bits of the 24-bit pixel bus/12-bit pixel bus input. In 24-bit, single-edge input mode (BSEL = high), this bus inputs the bottom half of the 24-bit pixel bus. In 12-bit, dual-edge input mode (BSEL = low), this (See Datasheet)", 61 DATA2 (in) "The lower 12 bits of the 24-bit pixel bus/12-bit pixel bus input. In 24-bit, single-edge input mode (BSEL = high), this bus inputs the bottom half of the 24-bit pixel bus. In 12-bit, dual-edge input mode (BSEL = low), this (See Datasheet)", 62 DATA1 (in) "The lower 12 bits of the 24-bit pixel bus/12-bit pixel bus input. In 24-bit, single-edge input mode (BSEL = high), this bus inputs the bottom half of the 24-bit pixel bus. In 12-bit, dual-edge input mode (BSEL = low), this (See Datasheet)", 63 DATA0 (in) "The lower 12 bits of the 24-bit pixel bus/12-bit pixel bus input. In 24-bit, single-edge input mode (BSEL = high), this bus inputs the bottom half of the 24-bit pixel bus. In 12-bit, dual-edge input mode (BSEL = low), this (See Datasheet)"
part B pins: 2 DE (in) "Data enable. As defined in the DVI 1.0 specification, the DE signal allows the transmitter to encode pixel data or control data on any given input clock cycle. During active video (DE = high), the transmitter encodes pixel (See Datasheet)", 3 VREF (in) "Input reference voltage. Selects the swing range of the digital data inputs (DATA[23:0], DE, HSYNC, VSYNC, and IDCK+/-). For high-swing 3.3-V input signal levels, VREF should be tied to VDD. For low-swing input signal (See Datasheet)", 4 HSYNC (in) "Horizontal sync input.", 5 VSYNC (in) "Vertical sync input.", 6 DK3 (in) "The operation of these three multifunction inputs depends on the setting of the ISEL (pin 13) input. All three inputs support 3.3-V CMOS signal levels and contain weak pulldown resistors so that if left unconnected they (See Datasheet)", 7 MDA/DK2 (io) "The operation of these three multifunction inputs depends on the setting of the ISEL (pin 13) input. All three inputs support 3.3-V CMOS signal levels and contain weak pulldown resistors so that if left unconnected they (See Datasheet)", 8 MCL/DK1 (io) "The operation of these three multifunction inputs depends on the setting of the ISEL (pin 13) input. All three inputs support 3.3-V CMOS signal levels and contain weak pulldown resistors so that if left unconnected they (See Datasheet)", 9 EDGE/HTPLG (in) "Edge select/hot plug input. The operation of this pin depends on whether the I2C interface is enabled or disabled. This input is 3.3-V tolerant only. When I2C is disabled (ISEL = low), a high level selects the primary latch (See Datasheet)", 10 ~{PD} (in) "Power down (active low). In the power-down state only the digital I/O buffers and I2C interface remain active. When I2C is disabled (ISEL = low), a high level selects the normal operating mode. A low level selects the (See Datasheet)", 11 MSEN (oc) "Monitor sense/programmable output 1. The operation of this pin depends on whether the I2C interface is enabled or disabled. This pin has an open-drain output and is only 3.3-V tolerant. An external 5-k ohm pullup resistor (See Datasheet)", 13 ISEL/~{RST} (in) "I2C interface select / I2C RESET (active low, asynchronous). If ISEL is high, then the I2C interface is active. Default values for the I2C registers can be found in the I2C register descriptions section. If ISEL is low, then (See Datasheet)", 14 DSEL/SDA (io) "DSEL/I2C data. The operation of this pin depends on whether the I2C interface is enabled or disabled. This pin is only 3.3-V tolerant. When I2C is disabled (ISEL = low), this pin is used with BSEL and VREF to select the (See Datasheet)", 15 BSEL/SCL (io) "Input bus select / I2C clock input. The operation of this pin depends on whether the I2C interface is enabled or disabled. This pin is only 3.3-V tolerant. When I2C is disabled (ISEL = low), a high level selects 24-bit (See Datasheet)", 56 IDCK- (in) "Differential clock input. The TFP510 supports both single-ended and fully differential clock input modes. In the single-ended clock input mode, the IDCK+ input (pin 57) should be connected to the single-ended clock source (See Datasheet)", 57 IDCK+ (in) "Differential clock input. The TFP510 supports both single-ended and fully differential clock input modes. In the single-ended clock input mode, the IDCK+ input (pin 57) should be connected to the single-ended clock source (See Datasheet)"
part C pins: 1 DVDD (power) "Digital power supply. Must be set to 3.3 V nominal.", 12 DVDD (power) "Digital power supply. Must be set to 3.3 V nominal.", 16 DGND (power) "Digital ground.", 17 PGND (power) "PLL ground.", 18 PVDD (power) "PLL power supply. Must be set to 3.3 V nominal.", 20 TGND (power) "Transmitter differential output driver ground.", 23 TVDD (power) "Transmitter differential output driver power supply. Must be set to 3.3 V nominal.", 26 TGND (power) "Transmitter differential output driver ground.", 29 TVDD (power) "Transmitter differential output driver power supply. Must be set to 3.3 V nominal.", 32 TGND (power) "Transmitter differential output driver ground.", 33 DVDD (power) "Digital power supply. Must be set to 3.3 V nominal.", 34 RESERVED "These pins are reserved and must be tied to GND for normal operation.", 35 RESERVED "These pins are reserved and must be tied to GND for normal operation.", 48 DGND (power) "Digital ground.", 49 NC "No connection required. If connected, tie high.", 64 DGND (power) "Digital ground.", 65 EP "Exposed Pad."

## TMDS141RHAR
designator U?
HDMI Hider, 130 mA, 6 kV, 0 to +70 degC, 40-pin QFN (RHA), Green (RoHS & no Sb/Br); Manufacturer: Texas Instruments; PartNumber: TMDS141RHAR; Clock P-P Jitter(Max)(ps): 30; Data P-P Jitter(Max)(ps): 90; ESD HBM(kV): 6; ICC(Max)(mA): 130; Inter-Pair Skew(Max)(ps): 80; Intra-Pair Skew(Max)(ps): 60; No. of TMDS Inputs: 1; SubFamily: DVI/HDMI Repeater/Switch; TMDS Input Equalization: TRUE; DatasheetVersion: SLLS737D; PackageVersion: revL, May-2012; PackageReference: RHA40-2900X2900TP; PackageDescription: 40-Pin Plastic Quad Flatpack No-Lead, 6 x 6 mm Body, 0.5 mm Pitch; Supplier 1: Digi-Key; Supplier Part Number 1: 296-21873-2-ND; Supplier 2: Digi-Key; Supplier Part Number 2: 296-21873-1-ND; Supplier 3: Digi-Key; Supplier Part Number 3: 296-21873-6-ND; Supplier 4: Newark; Supplier Part Number 4: 03M1084; Supplier 5: Mouser; Supplier Part Number 5: 595-TMDS141RHAR; Eco-Plan: Green (RoHS & no Sb/Br); No. of TMDS Outputs: 1; TMDS Output De-emphasis: TRUE; Mounting Technology: Surface Mount; Code_JEDEC: MO-220-VJJD-2; ComponentLink1Description: Datasheet; ComponentLink1URL: http://www.ti.com/general/docs/lit/getliterature.tsp?genericPartNumber=TMDS141&fileType=pdf; ComponentLink2Description: URL Link1; ComponentLink2URL: SamplesURL:http://www.ti.com/product/tmds141#samples
footprint RHA40-2900X2900TP (QFN, 40-Leads, Body 6x6mm, Pitch 0.5mm, Thermal Pad 2.9x2.9mm, TI Recommended)
part A pins: 1 ~{RX2} (in) "TMDS Negative inputs", 2 RX2 (in) "TMDS Positive inputs", 5 I2CEN (in) "I2C Repeater enable. Low: High-Z;High: Active", 6 ~{OE} (in) "TMDS Output enable. Low: Active;High: High-Z", 7 PRE (in) "TMDS Output de-emphasis adjustment. Low: 0 dB;High: 3.5 dB", 9 TX2 (hiz) "TMDS Positive outputs", 10 ~{TX2} (hiz) "TMDS Negative outputs", 12 TX1 (hiz) "TMDS Positive outputs", 13 ~{TX1} (hiz) "TMDS Negative outputs", 15 TX0 (hiz) "TMDS Positive outputs", 16 ~{TX0} (hiz) "TMDS Negative outputs", 18 TXC (hiz) "TMDS Positive outputs", 19 ~{TXC} (hiz) "TMDS Negative outputs", 22 TSCL (io) "DDC Bus clock line to sink", 23 TSDA (io) "DDC Bus data line to sink", 25 OVS (in) "TSCL/TSDA Output voltage select", 28 RSDA (io) "DDC Bus data line to source", 29 RSCL (io) "DDC Bus clock line to source", 30 VSADJ (in) "TMDS Compliant voltage swing control", 32 ~{RXC} (in) "TMDS Negative inputs", 33 RXC (in) "TMDS Positive inputs", 35 ~{RX0} (in) "TMDS Negative inputs", 36 RX0 (in) "TMDS Positive inputs", 38 ~{RX1} (in) "TMDS Negative inputs", 39 RX1 (in) "TMDS Positive inputs"
part B pins: 3 GND (power) "Ground", 4 VCC (power) "Power supply", 8 GND (power) "Ground", 11 VCC (power) "Power supply", 14 GND (power) "Ground", 17 VCC (power) "Power supply", 20 GND (power) "Ground", 21 GND (power) "Ground", 24 VCC (power) "Power supply", 26 GND (power) "Ground", 27 VCC (power) "Power supply", 31 GND (power) "Ground", 34 VCC (power) "Power supply", 37 GND (power) "Ground", 40 VCC (power) "Power supply", 41 EP (power) "Exposed Thermal Pad"